# Altium footprint library airu-board.PCBLIB: 118 footprints (part 4 of 8)
Each footprint in its own frame and in the unit in brackets; x right, y up, seen from the top. Pads: shape width x height; smd on the part's side, far side on the other; paste and mask are expansions set on the pad; w line width, h text height; cw(c..) or ccw(c..) is an arc to the next point about the centre after c.
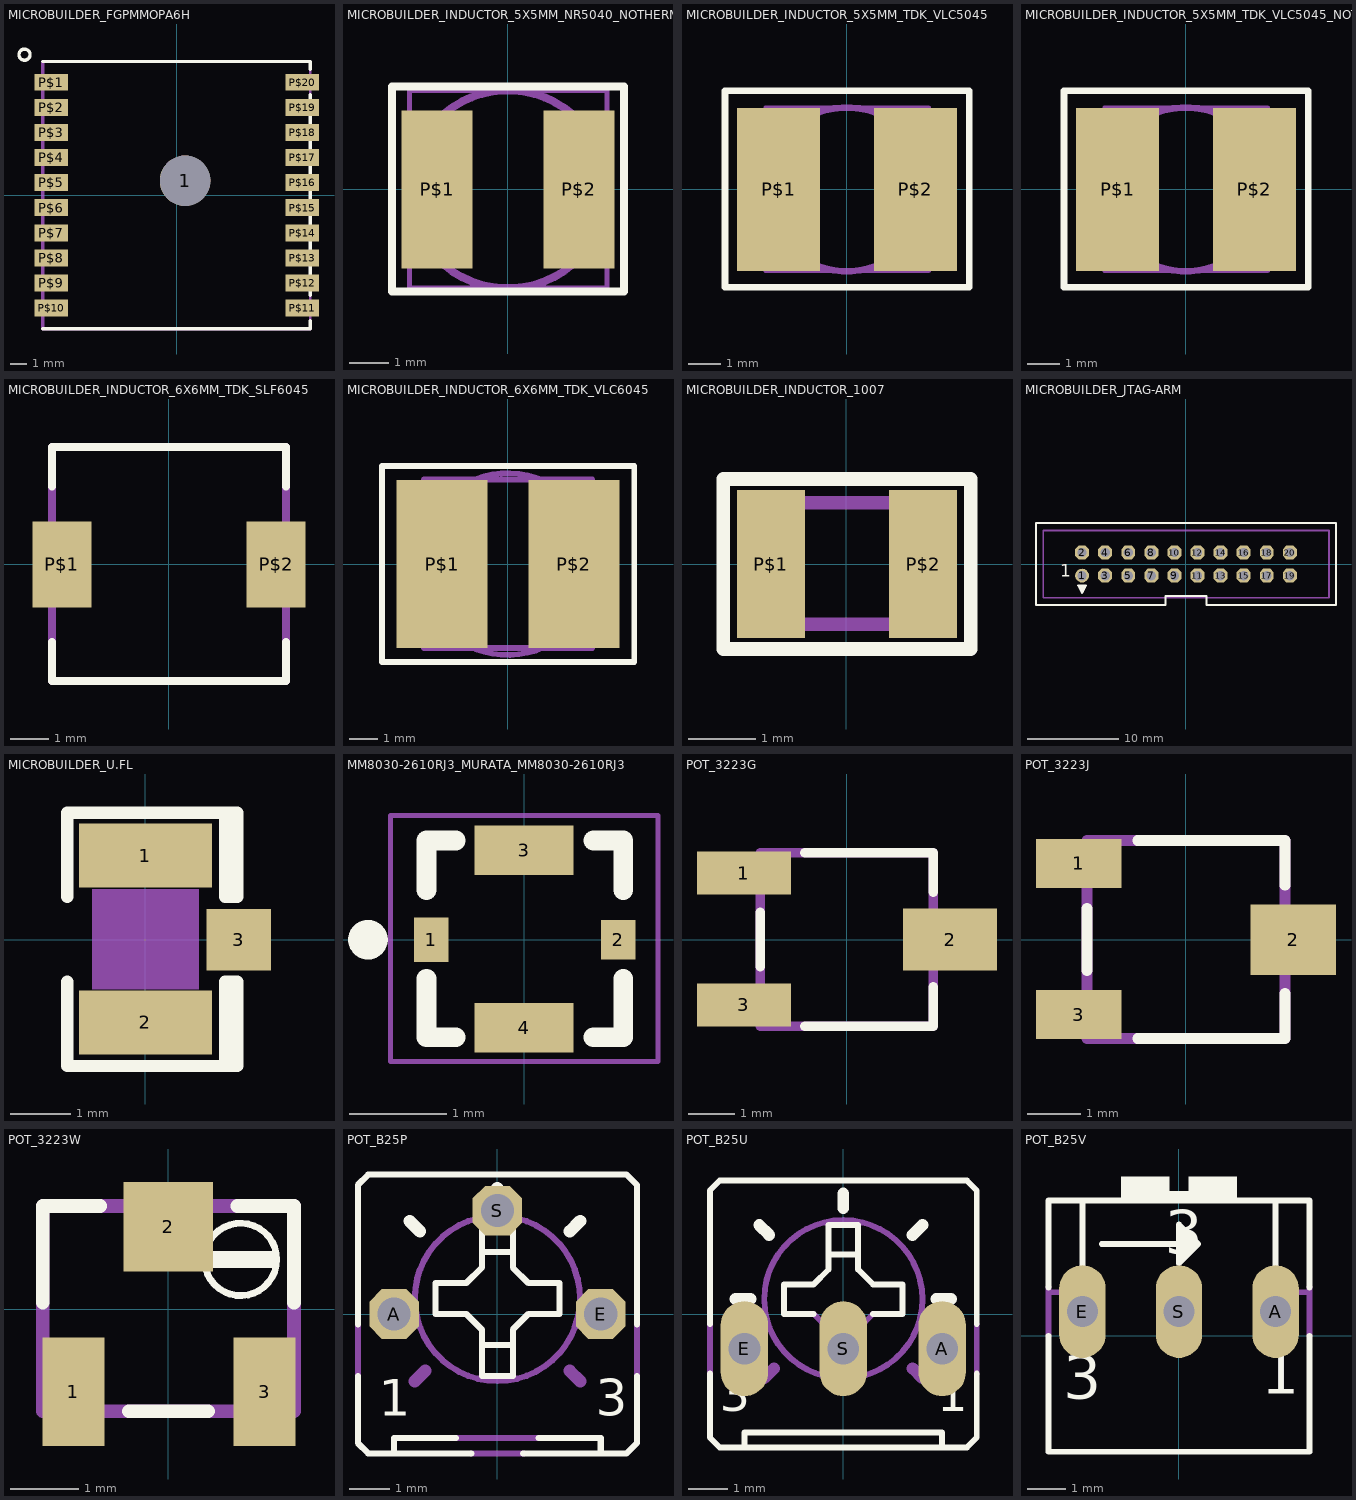
[diagram p3: the footprints below, top view; thin cyan lines are the x and y axes]

## MICROBUILDER_FGPMMOPA6H [mil]
pads (21):
  round 119 hole 119: 1(20,34)
  rect 79x40 smd: P$1(-295.28,266) P$2(-295.28,207) P$3(-295.28,148) P$4(-295.28,89) P$5(-295.28,30) P$6(-295.28,-29.53) P$7(-295.28,-88.58) P$8(-295.28,-147.64) P$9(-295.28,-206.69) P$10(-295.28,-265.75) P$11(296,-265.75) P$12(296,-206.69) P$13(296,-147.64) P$14(296,-88.58) P$15(296,-29.53) P$16(296,30) P$17(296,89) P$18(296,148) P$19(296,207) P$20(296,266)
Top Overlay:
  circle w8: c-358.27,331 r13
  lines w8: -314.96,-314.96 315,-314.96 315,-295.28 ; -314.96,315 315,315 315,296 ; 315,-236.22 315,237
Mechanical 16:
  circle w32: c20,34 r20
  lines w5: 315,-314.96 315,315
  lines w8: 315,-314.96 -314.96,-314.96 -314.96,315 315,315

## MICROBUILDER_INDUCTOR_5X5MM_NR5040_NOTHERMALS [mil]
pads (2):
  rect 71x158 smd: P$1(-70.87,0) P$2(71,0)
Top Overlay:
  lines w8: -115.67,-102.36 116,-102.36 116,103 -115.67,103 -115.67,-102.36
Mechanical 16:
  circle w8: c0,0 r99
  lines w5: -98.43,-98.43 99,-98.43 99,99 -98.43,99 -98.43,-98.43

## MICROBUILDER_INDUCTOR_5X5MM_TDK_VLC5045 [mil]
pads (2):
  rect 100x197 smd: P$1(-82.52,0) P$2(83,0)
Top Overlay:
  lines w8: -147.17,-118.11 148,-118.11 148,119 -147.17,119 -147.17,-118.11
Mechanical 16:
  circle w8: c0,0 r99
  lines w5: -98.43,-98.43 99,-98.43 99,99 -98.43,99 -98.43,-98.43

## MICROBUILDER_INDUCTOR_5X5MM_TDK_VLC5045_NOTHERMALS [mil]
pads (2):
  rect 100x197 smd: P$1(-82.52,0) P$2(83,0)
Top Overlay:
  lines w8: -147.17,-118.11 148,-118.11 148,119 -147.17,119 -147.17,-118.11
Mechanical 16:
  circle w8: c0,0 r99
  lines w5: -98.43,-98.43 99,-98.43 99,99 -98.43,99 -98.43,-98.43

## MICROBUILDER_INDUCTOR_6X6MM_TDK_SLF6045 [mil]
pads (2):
  rect 60x87 smd: P$1(-108.27,0) P$2(109,0)
Top Overlay:
  lines w8: -118.11,-78.74 -118.11,-118.11 119,-118.11 119,-78.74 ; -118.11,79 -118.11,119 119,119 119,79
Mechanical 16:
  lines w5: -118.11,-118.11 119,-118.11 ; -118.11,119 119,119
  lines w8: -118.11,-118.11 -118.11,119 ; 119,-118.11 119,119

## MICROBUILDER_INDUCTOR_6X6MM_TDK_VLC6045 [mil]
pads (2):
  rect 128x237 smd: P$1(-92.52,0) P$2(93,0)
Top Overlay:
  lines w8: -177.17,-137.8 178,-137.8 178,138 -177.17,138 -177.17,-137.8
Mechanical 16:
  circle w8: c0,0 r128
  lines w8: -118.11,-118.11 119,-118.11 119,119 -118.11,119 -118.11,-118.11

## MICROBUILDER_INDUCTOR_1007 [mil]
pads (2):
  rect 40x87 smd: P$1(-44.37,0) P$2(45,0)
Top Overlay:
  lines w8: -72.5,-50 73,-50 73,50 -72.5,50 -72.5,-50
Mechanical 16:
  lines w8: -29.53,-35.43 -49.21,-35.43 -49.21,36 -29.53,36 ; -29.53,-35.43 30,-35.43 ; -29.53,-35.43 -29.53,36 ; -29.53,36 30,36 ; 30,-35.43 50,-35.43 50,36 30,36 ; 30,-35.43 30,36

## MICROBUILDER_JTAG-ARM [mil]
pads (20):
  round 60 hole 40: 1(-450,-50)
  oct 60x60 hole 40: 2(-450,50) 3(-350,-50) 4(-350,50) 5(-250,-50) 6(-250,50) 7(-150,-50) 8(-150,50) 9(-50,-50) 10(-50,50) 11(50,-50) 12(50,50) 13(150,-50) 14(150,50) 15(250,-50) 16(250,50) 17(350,-50) 18(350,50) 19(450,-50) 20(450,50)
Top Overlay:
  rectangle: -460,-109 -440,-99
  rectangle: -465,-99 -450,-94
  rectangle: -450,-99 -435,-94
  rectangle: -455,-117 -445,-107
  lines w8: -450,-115 -450,-125 ; -450,-125 -433,-92 -467,-92 -450,-125 ; -649.61,-177.17 -649.61,178 650,178 650,-177.17 89,-177.17 89,-137.8 -88.58,-137.8 -88.58,-177.17 -649.61,-177.17
  text "1" at -545,-75 h93
Mechanical 16:
  lines w8: -618.11,-145.67 619,-145.67 619,146 -618.11,146 -618.11,-145.67
  text "JTAG" at -125,-135 h77.5

## MICROBUILDER_U.FL [mil]
pads (3):
  rect 87x42 smd: 1(0,55) 2(0,-54.13)
  rect 42x40 smd: 3(61,0)
Top Overlay:
  lines w8: -51.18,-27.56 -51.18,-82.68 52,-82.68 ; -51.18,28 -51.18,83 52,83 ; 56,-78.74 56,-27.56 ; 56,28 56,79 ; 52,-82.68 52,-27.56 60,-27.56 60,-82.68 52,-82.68 ; 52,83 52,28 60,28 60,83 52,83
Mechanical 8:
  rectangle: -35,-32.5 35,33

## MM8030-2610RJ3_MURATA_MM8030-2610RJ3 [mil]
pads (4):
  rect 14x18 smd: 1(-37.4,0)
  rect 14x16 smd: 2(38,0)
  rect 40x20 smd: 3(0,36) 4(0,-35.43)
Top Overlay:
  circle w8: c-62.99,0 r4
  lines w8: -39.37,-15.75 -39.37,-39.37 -27.56,-39.37 ; -39.37,20 -39.37,40 -27.56,40 ; 28,-39.37 40,-39.37 40,-15.75 ; 28,40 40,40 40,20
Mechanical 27:
  lines w2: -53.94,-49.21 54,-49.21 54,50 -53.94,50 -53.94,-49.21

## POT_3223G [mil]
pads (3):
  rect 79x36 smd: 1(-86.61,56) 3(-86.61,-55.12)
  rect 79x52 smd: 2(87,0)
Top Overlay:
  lines w8: -72.83,-22.83 -72.83,23 ; -35.33,-72.83 73,-72.83 73,-39.67 ; -35.33,73 73,73 73,40
Mechanical 16:
  rectangle: -104.33,43 -75.79,64
  rectangle: -104.33,-63.98 -75.79,-42.32
  rectangle: 76,-19.68 104,20
  lines w8: -72.83,-72.83 73,-72.83 73,73 -72.83,73 -72.83,-72.83

## POT_3223J [mil]
pads (3):
  rect 63x36 smd: 1(-78.74,56) 3(-78.74,-55.12)
  rect 63x52 smd: 2(79,0)
Top Overlay:
  lines w8: -72.83,-22.83 -72.83,23 ; -35.33,-72.83 73,-72.83 73,-39.67 ; -35.33,73 73,73 73,40
Mechanical 16:
  lines w8: -72.83,-72.83 73,-72.83 73,73 -72.83,73 -72.83,-72.83

## POT_3223W [mil]
pads (3):
  rect 36x63 smd: 1(-55.12,-47.83) 3(56,-47.83)
  rect 52x52 smd: 2(0,48)
Top Overlay:
  circle w4: c42,29 r21
  rectangle: 22,24 62,34
  lines w8: -72.83,4 -72.83,60 -39.67,60 ; -22.83,-59.06 23,-59.06 ; 40,60 73,60 73,4
Mechanical 16:
  lines w8: -72.83,-59.06 73,-59.06 73,60 -72.83,60 -72.83,-59.06

## POT_B25P [mil]
pads (3):
  oct 48x48 hole 32: A(-100,0) E(100,0) S(0,100)
Top Overlay:
  lines w6: -135,-60 -135,-125 -125,-135 -100,-135 ; -135,-10 -135,125 -125,135 125,135 135,125 135,-10 ; -40,-120 -100,-120 -100,-135 ; -25,-135 -100,-135 ; 25,-135 100,-135 ; 40,-120 100,-120 100,-135 ; 135,-60 135,-125 125,-135 100,-135 ; -15,-30 -15,-15 -30,0 -60,0 -60,30 -30,30 -15,45 -15,60 ; -15,-30 15,-30 ; -15,-30 -15,-60 15,-60 15,-30 ; -15,60 -15,90 15,90 15,60 ; -15,60 15,60 ; 15,-30 15,-15 30,0 60,0 60,30 30,30 15,45 15,60
  lines w12: -109,15 -94,15 ; -85,90 -75,80 ; 0,107 0,122 ; 70,80 80,90 ; 94,15 109,15
  text "3" at 95,-110 h60.45
  text "1" at -115,-110 h60.45
Mechanical 16:
  circle w6: c0,15 r80
  lines w6: -135,-60 -135,-10 ; -40,-120 40,-120 ; -25,-135 25,-135 ; 135,-60 135,-10
  lines w12: -80,-65 -70,-55 ; 70,-55 80,-65

## POT_B25U [mil]
pads (3):
  oval 48x96 hole 32: A(100,-35) E(-100,-35) S(0,-35)
Top Overlay:
  lines w6: -135,-60 -135,-125 -125,-135 -100,-135 ; -135,-10 -135,125 -125,135 125,135 135,125 135,-10 ; -30,0 -60,0 -60,30 -30,30 -15,45 -15,60 ; 30,0 60,0 60,30 30,30 15,45 15,60 ; 100,-135 100,-120 -100,-120 -100,-135 ; 135,-60 135,-125 125,-135 -100,-135 ; -15,60 -15,90 15,90 15,60 ; -15,60 15,60
  lines w12: -109,15 -94,15 ; -85,90 -75,80 ; 0,107 0,122 ; 70,80 80,90 ; 94,15 109,15
  text "3" at -125,-110 h60.45
  text "1" at 95,-110 h60.45
Mechanical 16:
  circle w6: c0,15 r80
  lines w6: -135,-60 -135,-10 ; -30,0 -15,-15 -15,-30 ; 30,0 15,-15 15,-30 ; 135,-60 135,-10 ; -15,-30 15,-30 ; -15,-30 -15,-60 15,-60 15,-30
  lines w12: -80,-65 -70,-55 ; 70,-55 80,-65

## POT_B25V [mil]
pads (3):
  oval 48x96 hole 32: A(100,25) E(-100,25) S(0,25)
Top Overlay:
  rectangle: -60,140 -10,165
  rectangle: 10,140 60,165
  rectangle: -10,140 10,150
  lines w6: -135,0 -135,-120 135,-120 135,0 ; -135,50 -135,140 -100,140 ; -100,70 -100,140 ; -80,95 5,95 ; 100,70 100,140 ; 135,50 135,140 100,140 ; -100,140 100,140 ; 5,80 10,85 ; 5,80 5,95 ; 5,80 0,75 0,115 5,110 ; 5,95 20,95 ; 5,95 5,110 ; 5,110 10,105 ; 10,85 10,105 ; 10,85 15,90 ; 10,105 15,100 ; 15,90 20,95 ; 15,90 15,100 ; 15,100 20,95
  text "3" at -120,-80 h77.5
  text "1" at 85,-75 h77.5
  text "3" at -15,70 h77.5
Mechanical 16:
  lines w6: -135,0 -135,50 ; -135,45 -100,45 -100,70 ; 100,70 100,45 135,45 ; 135,0 135,50